# Altium schematic symbol library J_cross point.Schlib: 1 symbol
Pins are listed as number, name and electrical type; pins without a type are passive.

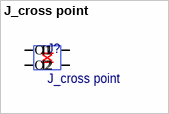
[diagram p0: symbol J_cross point]

## J_cross point
designator J?  (no BOM)
pins: 1 I1, 2 O1, 3 I2, 4 O2